# Altium schematic symbol library Isolation2017.SCHLIB: 10 symbols
Pins are listed as number, name and electrical type; pins without a type are passive.

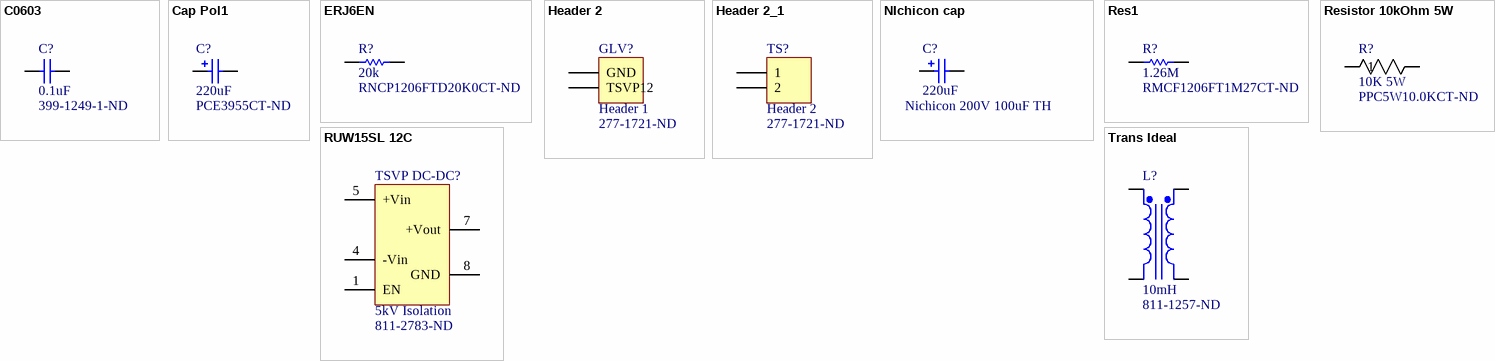
[diagram p0: symbols C0603 to Trans Ideal]

## C0603
designator C?  value 0.1uF  Supplier Part Number 1: 399-1249-1-ND  (hidden comment: C0603)
C0603C104K3RACTU; Note: Footprint corresponds to dimensions for bulk cassette packaging. This case size has tightened tolerances.; Published: 17-Jul-2002; LatestRevisionDate: 19-Mar-2004; LatestRevisionNote: Silkscreen size reduced.; DatasheetDocument: Mar-2001; PackageDocument: Mar-2001; PackageReference: 0603; Publisher: Altium Limited; Code_JEITA: 0603; Code_IPC: 1608 [0603]; ComponentLink1Description: Manufacturer Link; ComponentLink1URL: http://www.kemet.com/; ComponentLink2Description: Datasheet; ComponentLink2URL: http://www.kemet.com/kemet/web/homepage/kechome.nsf/vapubfilesname/F3102TA.pdf/$file/F3102TA.pdf
footprint 0603
simulation model CAP (Capacitor)
signal-integrity model C0603
footprint 0603
footprint C1206 (Chip Capacitor, Body 3.2x1.6mm, IPC High Density)
pins: 1, 2

## Cap Pol1
designator C?, comment 220uF  Supplier Part Number 1: PCE3955CT-ND
Panasonic Electrolytic 35V, 20% EEE-1VA221UP
simulation model CAP (Capacitor)
signal-integrity model Cap Pol
footprint EEE-1VA221UP (Panasonic Aluminum Electrolytic Capacitor, 220uF, 35V, 20%)
pins: 1, 2
1 alternate drawing of the same symbol

## ERJ6EN
designator R?, comment 20k  Supplier Part Number 1: RNCP1206FTD20K0CT-ND
Precision Thick Film Chip Resistor, 10 Ohm to 2.2M Ohm Range, 1% Tolerance, 0805 Size, 0.1 W; Published: 17-Dec-2003; LatestRevisionDate: 19-Mar-2004; LatestRevisionNote: Silkscreen size reduced.; PackageDocument: Mar-2003; PackageReference: 6-0805; Publisher: Altium Limited; Code_IPC: 2012 [0805]; ComponentLink1Description: Manufacturer Link; ComponentLink1URL: http://www.panasonic.com/industrial/components/resistive_products.htm; ComponentLink2Description: Datasheet; ComponentLink2URL: http://www.panasonic.com/industrial/components/pdf/AOA0000CE2.pdf
simulation model RESISTOR (Resistor)
signal-integrity model Res
footprint C1206 (Chip Capacitor, Body 3.2x1.6mm, IPC High Density)
pins: 1, 2

## Header 2
designator GLV?, comment Header 1  Supplier Part Number 1: 277-1721-ND
Header, 2-Pin; LatestRevisionDate: 17-Jul-2002; LatestRevisionNote: Re-released for DXP Platform.; Publisher: Altium Limited
footprint HDR1X2 (Connector; Header; 2 Position)
signal-integrity model Connector
footprint 2 Pin Screw Terminal (pitch 3.5mm, hole 2.5mm)
pins: 1 TSVP12, 2 GND

## Header 2_1
designator TS?, comment Header 2  Supplier Part Number 1: 277-1721-ND
Header, 2-Pin; LatestRevisionDate: 17-Jul-2002; LatestRevisionNote: Re-released for DXP Platform.; Publisher: Altium Limited
signal-integrity model Connector
footprint 2 Pin Screw Terminal (pitch 3.5mm, hole 2.5mm)
pins: 1, 2

## NIchicon cap
designator C?, comment 220uF  Supplier Part Number 1: Nichicon 200V 100uF TH
Panasonic Electrolytic 35V, 20% EEE-1VA221UP
simulation model CAP (Capacitor)
signal-integrity model Cap Pol
footprint NichiconCAP
pins: 1, 2
1 alternate drawing of the same symbol

## Res1
designator R?  value 1.26M  Supplier Part Number 1: RMCF1206FT1M27CT-ND
Resistor; Published: 8-Jun-2000; LatestRevisionDate: 17-Jul-2002; LatestRevisionNote: Re-released for DXP Platform.; PackageReference: AXIAL-0.3; Publisher: Altium Limited; PackageDescription: Axial Device, Thru-Hole; 2 Leads; 0.3 in Pin Spacing
footprint AXIAL-0.3 (Axial Device, Thru-Hole; 2 Leads; 0.3 in Pin Spacing)
simulation model RESISTOR (Resistor)
signal-integrity model Res
footprint C1206 (Chip Capacitor, Body 3.2x1.6mm, IPC High Density)
pins: 1, 2

## Resistor 10kOhm 5W
designator R?, comment 10K 5W  Supplier Part Number 1: PPC5W10.0KCT-ND
footprint Res THRU Hole 10k 5W
pins: 1, 2

## RUW15SL 12C
designator TSVP DC-DC?  Note: 5kV Isolation  Supplier Part Number 1: 811-2783-ND  (hidden comment: RUW15SL 12C)
footprint RUW15SL 12C (MuRata RC-DC)
pins: 1 EN, 4 -Vin, 5 +Vin, 7 +Vout, 8 GND

## Trans Ideal
designator L?, comment 10mH  Supplier Part Number 1: 811-1257-ND
MuRata 52106C Common Choke; Code_IEC: 1005; Published: 8-Jun-2000; LatestRevisionDate: 29-May-2009; LatestRevisionNote: IPC-7351 Footprint Added.; PackageReference: 0402-A; Publisher: Altium Limited; PackageDescription: Chip Inductor; Code_JEITA: 0402
footprint 52106C (MuRata 10mH Common Mode Choke)
pins: 1, 2, 3, 4